# EAGLE library part 62130621021 (library Headers)
1.27mm SMT Straight Dual Pin Header WR-PHD 6POS Manufacturer's datasheet <https://katalog.we-online.com/em/datasheet/62130621021.pdf>
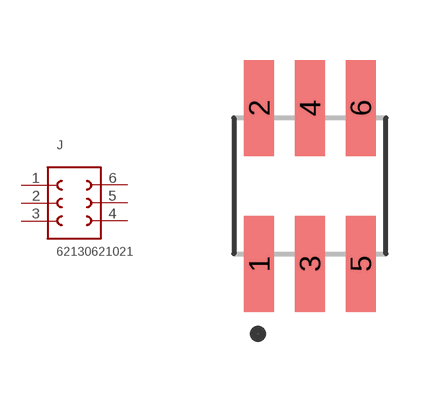
[diagram p21: symbol with the pads of 62130621021; footprint 62130621021]

Designator prefix J

## 62130621021 (CREATED_BY: PCBLayout.com; MANUFACTURER: WURTH ELEKTRONIK; MPN: 62130621021)  [62130621021]
1  1  pas
2  3  pas
3  5  pas
4  6  pas
5  4  pas
6  2  pas

## Footprint 62130621021 (pad centres in mm)
smd 0.75 x 2.4: 1 -1.27,-1.95; 2 -1.27,1.95; 3 0,-1.95; 4 0,1.95; 5 1.27,-1.95; 6 1.27,1.95